# Altium schematic symbol library SCH - CONNECTORS - 2x3 PIN DU.SCHLIB: 1 symbol
Pins are listed as number, name and electrical type; pins without a type are passive.

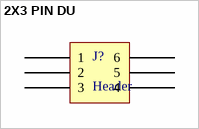
[diagram p0: symbol 2X3 PIN DU]

## 2X3 PIN DU
designator J?, comment Header
pins: 1, 2, 3, 4, 5, 6